# Altium footprint library con-phoenix-508.PCBLIB: 90 footprints (part 1 of 6)
Each footprint in its own frame and in the unit in brackets; x right, y up, seen from the top. Pads: shape width x height; smd on the part's side, far side on the other; paste and mask are expansions set on the pad; w line width, h text height; cw(c..) or ccw(c..) is an arc to the next point about the centre after c.
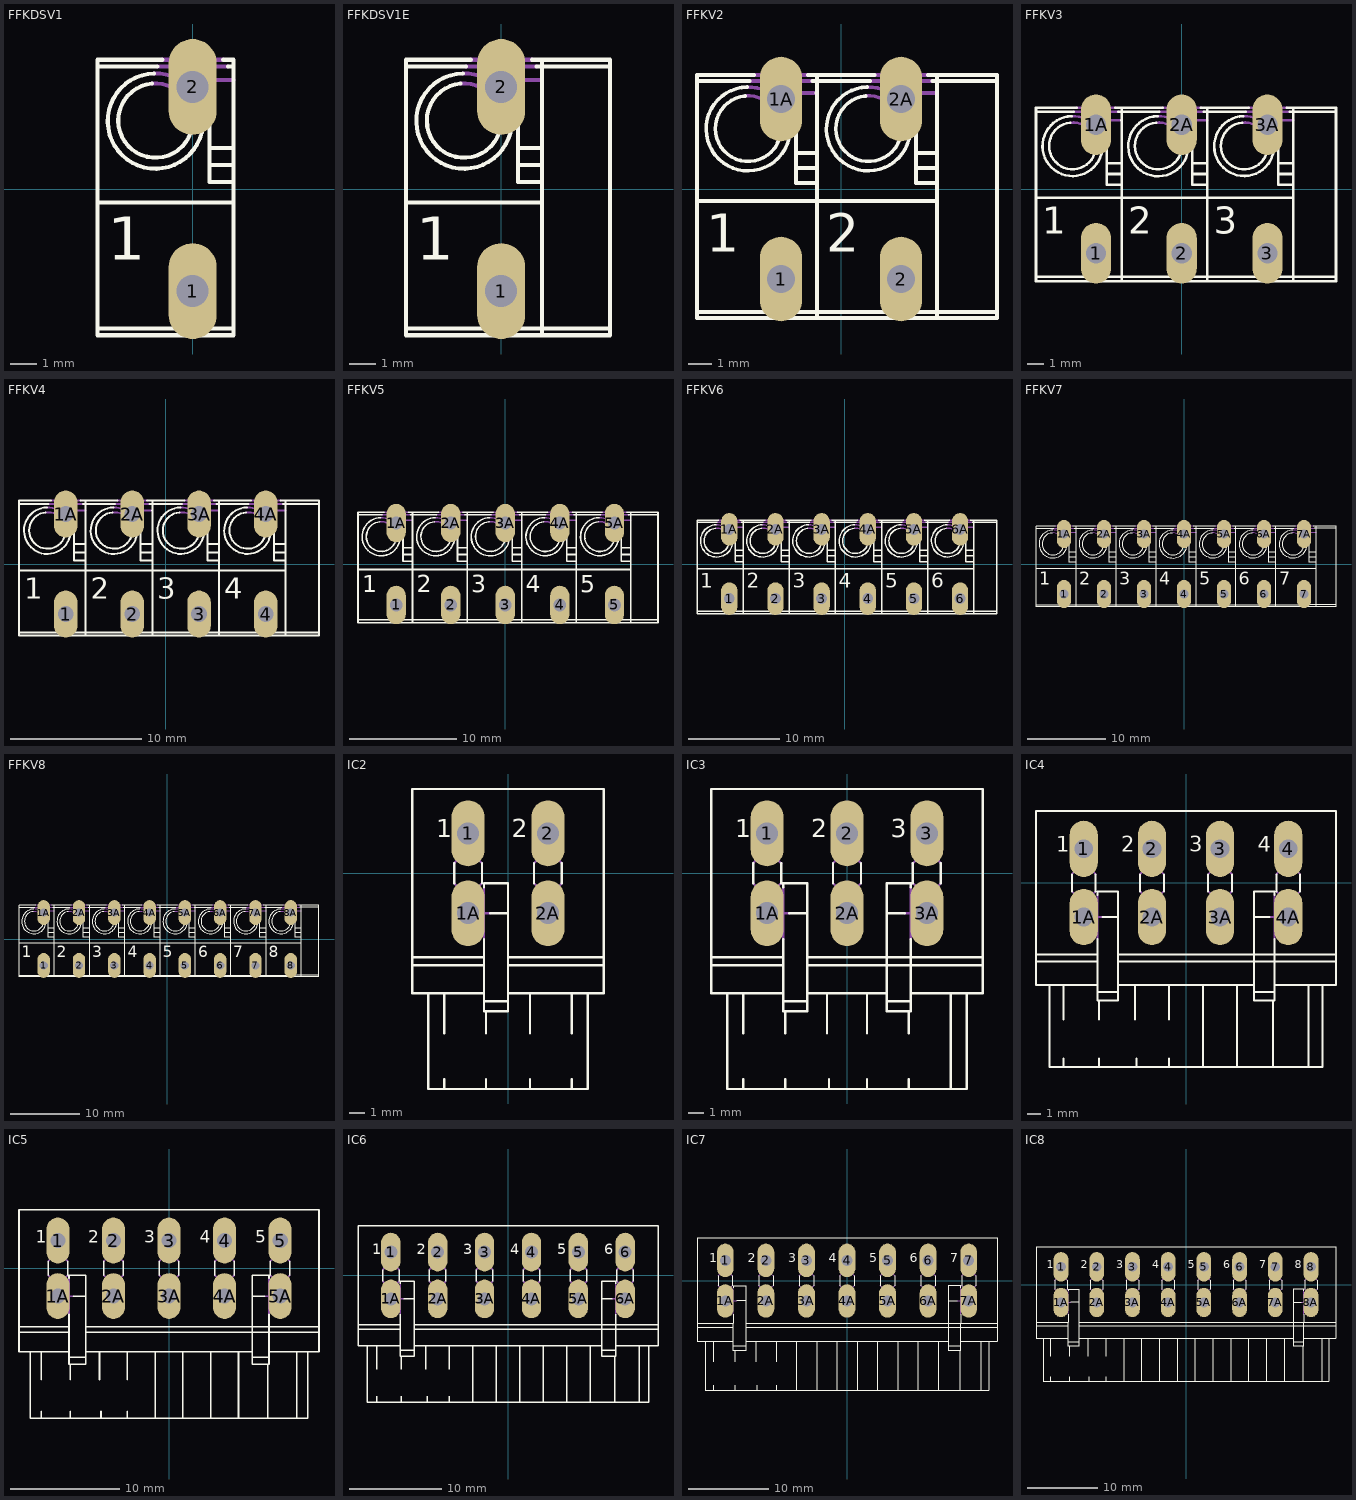
[diagram p0: the footprints below, top view; thin cyan lines are the x and y axes]

## FFKDSV1 [mil]
pads (2):
  oval 70.5x141 hole 47: 1(0,-150) 2(0,150)
Top Overlay:
  lines w6: -59.81,155 ccw(c-54.7,100.59) -0.9,91 ; -56.57,170 ccw(c-54.68,99.9) 15,92 ; -51.97,180 -140,180 ; -44.72,190 -140,190 -140,180 ; -23.98,-205 -140,-205 ; 24,-205 60,-205 ; 25,96 25,60 ; 45,190 60,190 60,180 ; 52,180 60,180 ; -140,-205 -140,-215 60,-215 60,-205 ; -140,-205 -140,-20 ; -140,-20 -140,180 ; -140,-20 60,-20 ; 25,35 25,10 60,10 ; 25,35 25,60 ; 25,35 60,35 ; 25,60 60,60 ; 60,-205 60,-20 ; 60,-20 60,10 ; 60,10 60,35 ; 60,35 60,60 ; 60,60 60,160 ; 60,160 60,180 ; 60,160 60,160
  text "1" at -125,-125 h108.5
Courtyard Bottom:
  lines w6: -59.81,155 cw(c-54.7,100.6) -0.91,91 ; -56.57,170 cw(c-54.68,99.9) 15,92 ; -51.97,180 52,180 ; -44.72,190 45,190 ; -23.98,-205 24,-205 ; 25,96 25,160 60,160

## FFKDSV1E [mil]
pads (2):
  oval 70.5x141 hole 47: 1(0,-150) 2(0,150)
Top Overlay:
  lines w6: -59.81,155 ccw(c-54.7,100.59) -0.9,91 ; -56.57,170 ccw(c-54.68,99.9) 15,92 ; -51.97,180 -140,180 ; -44.72,190 -140,190 -140,180 ; -23.98,-205 -140,-205 ; 24,-205 160,-205 ; 25,96 25,60 ; 45,190 160,190 160,180 ; 52,180 160,180 ; 60,-215 60,-20 ; 60,190 60,160 ; -140,-205 -140,-215 160,-215 160,-205 ; -140,-205 -140,-20 ; -140,-20 -140,180 ; -140,-20 60,-20 ; 25,35 25,10 60,10 ; 25,35 25,60 ; 25,35 60,35 ; 25,60 60,60 ; 60,-20 60,10 ; 60,10 60,35 ; 60,35 60,60 ; 60,60 60,160 ; 60,160 60,160 ; 160,-205 160,180
  text "1" at -125,-125 h108.5
Courtyard Bottom:
  lines w6: -59.81,155 cw(c-54.7,100.6) -0.91,91 ; -56.57,170 cw(c-54.68,99.9) 15,92 ; -51.97,180 52,180 ; -44.72,190 45,190 ; -23.98,-205 24,-205 ; 25,96 25,160 60,160

## FFKV2 [mil]
pads (4):
  oval 70.5x141 hole 47: 1(-100,-150) 1A(-100,150) 2(100,-150) 2A(100,150)
Top Overlay:
  lines w6: -159.81,155 ccw(c-154.7,100.59) -100.9,91 ; -156.57,170 ccw(c-154.91,100.1) -85.46,92 ; -151.97,180 -240,180 ; -144.72,190 -240,190 -240,180 ; -123.98,-205 -240,-205 ; -76.02,-205 -40,-205 ; -75,96 -75,60 ; -55.28,190 -40,190 ; -48.03,180 -40,180 ; -40.83,160 -40,160 ; 41,155 ccw(c46.15,100.55) 100,91 ; 44,170 ccw(c45.6,100.15) 115,92 ; 49,180 -40,180 ; 56,190 -40,190 ; 77,-205 -40,-205 ; 124,-205 260,-205 ; 125,96 125,60 ; 145,190 260,190 260,180 ; 152,180 260,180 ; 160,-215 160,-20 ; 160,190 160,160 ; -240,-205 -240,-215 -40,-215 ; -240,-205 -240,-20 ; -240,-20 -240,180 ; -240,-20 -40,-20 ; -75,35 -75,10 -40,10 ; -75,35 -75,60 ; -75,35 -40,35 ; -75,60 -40,60 ; -40,-215 -40,-205 ; -40,-215 260,-215 260,-205 ; -40,-205 -40,-20 ; -40,-20 -40,10 ; -40,-20 160,-20 ; -40,10 -40,35 ; -40,35 -40,60 ; -40,60 -40,160 ; -40,160 -40,180 ; -40,180 -40,190 ; 125,35 125,10 160,10 ; 125,35 125,60 ; 125,35 160,35 ; 125,60 160,60 ; 160,-20 160,10 ; 160,10 160,35 ; 160,35 160,60 ; 160,60 160,160 ; 160,160 160,160 ; 260,-205 260,180
  text "1" at -225,-125 h108.5
  text "2" at -25,-125 h108.5
Courtyard Bottom:
  lines w6: -159.81,155 cw(c-154.7,100.6) -100.91,91 ; -156.57,170 cw(c-154.91,100.11) -85.47,92 ; -151.97,180 -48.03,180 ; -144.72,190 -55.28,190 ; -123.98,-205 -76.02,-205 ; -75,96 -75,160 -40.83,160 ; 41,155 cw(c46.16,100.56) 100,91 ; 44,170 cw(c45.61,100.15) 115,92 ; 49,180 152,180 ; 56,190 145,190 ; 77,-205 124,-205 ; 125,96 125,160 160,160

## FFKV3 [mil]
pads (6):
  oval 70.5x141 hole 47: 1(-200,-150) 1A(-200,150) 2(0,-150) 2A(0,150) 3(200,-150) 3A(200,150)
Top Overlay:
  lines w6: -259.81,155 ccw(c-254.7,100.59) -200.9,91 ; -256.57,170 ccw(c-254.91,100.1) -185.46,92 ; -251.97,180 -340,180 ; -244.72,190 -340,190 -340,180 ; -223.98,-205 -340,-205 ; -176.02,-205 -140,-205 ; -175,96 -175,60 ; -155.28,190 -140,190 ; -148.03,180 -140,180 ; -140.83,160 -140,160 ; -59.81,155 ccw(c-54.7,100.59) -0.9,91 ; -56.57,170 ccw(c-54.68,99.9) 15,92 ; -51.97,180 -140,180 ; -44.72,190 -140,190 ; -23.98,-205 -140,-205 ; 24,-205 60,-205 ; 25,96 25,60 ; 45,190 60,190 ; 52,180 60,180 ; 141,155 ccw(c146.15,100.55) 200,91 ; 144,170 ccw(c145.6,100.15) 215,92 ; 149,180 60,180 ; 156,190 60,190 ; 177,-205 60,-205 ; 224,-205 360,-205 ; 225,96 225,60 ; 245,190 360,190 360,180 ; 252,180 360,180 ; 260,-215 260,-20 ; 260,190 260,160 ; -340,-205 -340,-215 -140,-215 ; -340,-205 -340,-20 ; -340,-20 -340,180 ; -340,-20 -140,-20 ; -175,35 -175,10 -140,10 ; -175,35 -175,60 ; -175,35 -140,35 ; -175,60 -140,60 ; -140,-215 60,-215 ; -140,-215 -140,-205 ; -140,-205 -140,-20 ; -140,-20 60,-20 ; -140,-20 -140,10 ; -140,10 -140,35 ; -140,35 -140,60 ; -140,60 -140,160 ; -140,160 -140,180 ; -140,180 -140,190 ; 25,35 25,10 60,10 ; 25,35 25,60 ; 25,35 60,35 ; 25,60 60,60 ; 60,-215 360,-215 360,-205 ; 60,-215 60,-205 ; 60,-205 60,-20 ; 60,-20 60,10 ; 60,-20 260,-20 ; 60,10 60,35 ; 60,35 60,60 ; 60,60 60,160 ; 60,160 60,180 ; 60,160 60,160 ; 60,180 60,190 ; 225,35 225,10 260,10 ; 225,35 225,60 ; 225,35 260,35 ; 225,60 260,60 ; 260,-20 260,10 ; 260,10 260,35 ; 260,35 260,60 ; 260,60 260,160 ; 260,160 260,160 ; 360,-205 360,180
  text "1" at -325,-125 h108.5
  text "2" at -125,-125 h108.5
  text "3" at 75,-125 h108.5
Courtyard Bottom:
  lines w6: -259.81,155 cw(c-254.7,100.6) -200.91,91 ; -256.57,170 cw(c-254.91,100.11) -185.47,92 ; -251.97,180 -148.03,180 ; -244.72,190 -155.28,190 ; -223.98,-205 -176.02,-205 ; -175,96 -175,160 -140.83,160 ; -59.81,155 cw(c-54.7,100.6) -0.91,91 ; -56.57,170 cw(c-54.68,99.9) 15,92 ; -51.97,180 52,180 ; -44.72,190 45,190 ; -23.98,-205 24,-205 ; 25,96 25,160 60,160 ; 141,155 cw(c146.16,100.56) 200,91 ; 144,170 cw(c145.61,100.15) 215,92 ; 149,180 252,180 ; 156,190 245,190 ; 177,-205 224,-205 ; 225,96 225,160 260,160

## FFKV4 [mil]
pads (8):
  oval 70.5x141 hole 47: 1(-300,-150) 1A(-300,150) 2(-100,-150) 2A(-100,150) 3(100,-150) 3A(100,150) 4(300,-150) 4A(300,150)
Top Overlay:
  lines w6: -359.81,155 ccw(c-354.7,100.59) -300.9,91 ; -356.57,170 ccw(c-354.91,100.1) -285.46,92 ; -351.97,180 -440,180 ; -344.72,190 -440,190 -440,180 ; -323.98,-205 -440,-205 ; -276.02,-205 -240,-205 ; -275,96 -275,60 ; -255.28,190 -240,190 ; -248.03,180 -240,180 ; -240.83,160 -240,160 ; -159.81,155 ccw(c-154.7,100.59) -100.9,91 ; -156.57,170 ccw(c-154.91,100.1) -85.46,92 ; -151.97,180 -240,180 ; -144.72,190 -240,190 ; -123.98,-205 -240,-205 ; -76.02,-205 -40,-205 ; -75,96 -75,60 ; -55.28,190 -40,190 ; -48.03,180 -40,180 ; -40.83,160 -40,160 ; 41,155 ccw(c46.15,100.55) 100,91 ; 44,170 ccw(c45.6,100.15) 115,92 ; 49,180 -40,180 ; 56,190 -40,190 ; 77,-205 -40,-205 ; 124,-205 160,-205 ; 125,96 125,60 ; 145,190 160,190 ; 152,180 160,180 ; 160,10 125,10 125,35 ; 160,35 125,35 ; 160,60 125,60 ; 241,155 ccw(c246.15,100.55) 300,91 ; 244,170 ccw(c245.6,100.15) 315,92 ; 249,180 160,180 ; 256,190 160,190 ; 277,-205 160,-205 ; 324,-205 460,-205 ; 325,96 325,60 ; 345,190 460,190 460,180 ; 352,180 460,180 ; 360,-215 360,-20 ; 360,190 360,160 ; -440,-205 -440,-215 -240,-215 ; -440,-205 -440,-20 ; -440,-20 -440,180 ; -440,-20 -240,-20 ; -275,35 -275,10 -240,10 ; -275,35 -275,60 ; -275,35 -240,35 ; -275,60 -240,60 ; -240,-215 -40,-215 ; -240,-215 -240,-205 ; -240,-205 -240,-20 ; -240,-20 -40,-20 ; -240,-20 -240,10 ; -240,10 -240,35 ; -240,35 -240,60 ; -240,60 -240,160 ; -240,160 -240,180 ; -240,180 -240,190 ; -75,35 -75,10 -40,10 ; -75,35 -75,60 ; -75,35 -40,35 ; -75,60 -40,60 ; -40,-215 160,-215 ; -40,-215 -40,-205 ; -40,-205 -40,-20 ; -40,-20 160,-20 ; -40,-20 -40,10 ; -40,10 -40,35 ; -40,35 -40,60 ; -40,60 -40,160 ; -40,160 -40,180 ; -40,180 -40,190 ; 125,35 125,60 ; 160,-215 160,-205 ; 160,-215 460,-215 460,-205 ; 160,-205 160,-20 ; 160,-20 160,160 ; 160,-20 360,-20 ; 160,160 160,160 ; 160,160 160,180 ; 160,180 160,190 ; 325,35 325,10 360,10 ; 325,35 325,60 ; 325,35 360,35 ; 325,60 360,60 ; 360,-20 360,10 ; 360,10 360,35 ; 360,35 360,60 ; 360,60 360,160 ; 360,160 360,160 ; 460,-205 460,180
  text "1" at -425,-125 h108.5
  text "2" at -225,-125 h108.5
  text "3" at -25,-125 h108.5
  text "4" at 175,-125 h108.5
Courtyard Bottom:
  lines w6: -359.81,155 cw(c-354.7,100.6) -300.91,91 ; -356.57,170 cw(c-354.91,100.11) -285.47,92 ; -351.97,180 -248.03,180 ; -344.72,190 -255.28,190 ; -323.98,-205 -276.02,-205 ; -275,96 -275,160 -240.83,160 ; -159.81,155 cw(c-154.7,100.6) -100.91,91 ; -156.57,170 cw(c-154.91,100.11) -85.47,92 ; -151.97,180 -48.03,180 ; -144.72,190 -55.28,190 ; -123.98,-205 -76.02,-205 ; -75,96 -75,160 -40.83,160 ; 41,155 cw(c46.16,100.56) 100,91 ; 44,170 cw(c45.61,100.15) 115,92 ; 49,180 152,180 ; 56,190 145,190 ; 77,-205 124,-205 ; 125,96 125,160 160,160 ; 241,155 cw(c246.16,100.56) 300,91 ; 244,170 cw(c245.61,100.15) 315,92 ; 249,180 352,180 ; 256,190 345,190 ; 277,-205 324,-205 ; 325,96 325,160 360,160

## FFKV5 [mil]
pads (10):
  oval 70.5x141 hole 47: 1(-400,-150) 1A(-400,150) 2(-200,-150) 2A(-200,150) 3(0,-150) 3A(0,150) 4(200,-150) 4A(200,150) 5(400,-150) 5A(400,150)
Top Overlay:
  lines w6: -459.81,155 ccw(c-454.7,100.59) -400.9,91 ; -456.57,170 ccw(c-454.91,100.1) -385.46,92 ; -451.97,180 -540,180 ; -444.72,190 -540,190 -540,180 ; -423.98,-205 -540,-205 ; -376.02,-205 -340,-205 ; -375,96 -375,60 ; -355.28,190 -340,190 ; -348.03,180 -340,180 ; -340.83,160 -340,160 ; -259.81,155 ccw(c-254.7,100.59) -200.9,91 ; -256.57,170 ccw(c-254.91,100.1) -185.46,92 ; -251.97,180 -340,180 ; -244.72,190 -340,190 ; -223.98,-205 -340,-205 ; -176.02,-205 -140,-205 ; -175,96 -175,60 ; -155.28,190 -140,190 ; -148.03,180 -140,180 ; -140.83,160 -140,160 ; -59.81,155 ccw(c-54.7,100.59) -0.9,91 ; -56.57,170 ccw(c-54.68,99.9) 15,92 ; -51.97,180 -140,180 ; -44.72,190 -140,190 ; -23.98,-205 -140,-205 ; 24,-205 60,-205 ; 25,96 25,60 ; 45,190 60,190 ; 52,180 60,180 ; 141,155 ccw(c146.15,100.55) 200,91 ; 144,170 ccw(c145.6,100.15) 215,92 ; 149,180 60,180 ; 156,190 60,190 ; 177,-205 60,-205 ; 224,-205 260,-205 ; 225,96 225,60 ; 245,190 260,190 ; 252,180 260,180 ; 260,10 225,10 225,35 ; 260,35 225,35 ; 260,60 225,60 ; 341,155 ccw(c346.15,100.55) 400,91 ; 344,170 ccw(c345.61,100.15) 415,92 ; 349,180 260,180 ; 356,190 260,190 ; 377,-205 260,-205 ; 424,-205 560,-205 ; 425,96 425,60 ; 445,190 560,190 560,180 ; 452,180 560,180 ; 460,-215 460,-20 ; 460,190 460,160 ; -540,-205 -540,-215 -340,-215 ; -540,-205 -540,-20 ; -540,-20 -540,180 ; -540,-20 -340,-20 ; -375,35 -375,10 -340,10 ; -375,35 -375,60 ; -375,35 -340,35 ; -375,60 -340,60 ; -340,-215 -140,-215 ; -340,-215 -340,-205 ; -340,-205 -340,-20 ; -340,-20 -140,-20 ; -340,-20 -340,10 ; -340,10 -340,35 ; -340,35 -340,60 ; -340,60 -340,160 ; -340,160 -340,180 ; -340,180 -340,190 ; -175,35 -175,10 -140,10 ; -175,35 -175,60 ; -175,35 -140,35 ; -175,60 -140,60 ; -140,-215 60,-215 ; -140,-215 -140,-205 ; -140,-205 -140,-20 ; -140,-20 60,-20 ; -140,-20 -140,10 ; -140,10 -140,35 ; -140,35 -140,60 ; -140,60 -140,160 ; -140,160 -140,180 ; -140,180 -140,190 ; 25,35 25,10 60,10 ; 25,35 25,60 ; 25,35 60,35 ; 25,60 60,60 ; 60,-215 260,-215 ; 60,-215 60,-205 ; 60,-205 60,-20 ; 60,-20 260,-20 ; 60,-20 60,10 ; 60,10 60,35 ; 60,35 60,60 ; 60,60 60,160 ; 60,160 60,180 ; 60,160 60,160 ; 60,180 60,190 ; 225,35 225,60 ; 260,-215 260,-205 ; 260,-215 560,-215 560,-205 ; 260,-205 260,-20 ; 260,-20 260,160 ; 260,-20 460,-20 ; 260,160 260,160 ; 260,160 260,180 ; 260,180 260,190 ; 425,35 425,10 460,10 ; 425,35 425,60 ; 425,35 460,35 ; 425,60 460,60 ; 460,-20 460,10 ; 460,10 460,35 ; 460,35 460,60 ; 460,60 460,160 ; 460,160 460,160 ; 560,-205 560,180
  text "1" at -525,-125 h108.5
  text "2" at -325,-125 h108.5
  text "3" at -125,-125 h108.5
  text "4" at 75,-125 h108.5
  text "5" at 275,-125 h108.5
Courtyard Bottom:
  lines w6: -459.81,155 cw(c-454.7,100.6) -400.91,91 ; -456.57,170 cw(c-454.91,100.11) -385.47,92 ; -451.97,180 -348.03,180 ; -444.72,190 -355.28,190 ; -423.98,-205 -376.02,-205 ; -375,96 -375,160 -340.83,160 ; -259.81,155 cw(c-254.7,100.6) -200.91,91 ; -256.57,170 cw(c-254.91,100.11) -185.47,92 ; -251.97,180 -148.03,180 ; -244.72,190 -155.28,190 ; -223.98,-205 -176.02,-205 ; -175,96 -175,160 -140.83,160 ; -59.81,155 cw(c-54.7,100.6) -0.91,91 ; -56.57,170 cw(c-54.68,99.9) 15,92 ; -51.97,180 52,180 ; -44.72,190 45,190 ; -23.98,-205 24,-205 ; 25,96 25,160 60,160 ; 141,155 cw(c146.16,100.56) 200,91 ; 144,170 cw(c145.61,100.15) 215,92 ; 149,180 252,180 ; 156,190 245,190 ; 177,-205 224,-205 ; 225,96 225,160 260,160 ; 341,155 cw(c346.16,100.56) 400,91 ; 344,170 cw(c345.61,100.15) 415,92 ; 349,180 452,180 ; 356,190 445,190 ; 377,-205 424,-205 ; 425,96 425,160 460,160

## FFKV6 [mil]
pads (12):
  oval 70.5x141 hole 47: 1(-500,-150) 1A(-500,150) 2(-300,-150) 2A(-300,150) 3(-100,-150) 3A(-100,150) 4(100,-150) 4A(100,150) 5(300,-150) 5A(300,150) 6(500,-150) 6A(500,150)
Top Overlay:
  lines w6: -559.81,155 ccw(c-554.7,100.59) -500.9,91 ; -556.57,170 ccw(c-554.91,100.1) -485.46,92 ; -551.97,180 -640,180 ; -544.72,190 -640,190 -640,180 ; -523.98,-205 -640,-205 ; -476.02,-205 -440,-205 ; -475,96 -475,60 ; -455.28,190 -440,190 ; -448.03,180 -440,180 ; -359.81,155 ccw(c-354.7,100.59) -300.9,91 ; -356.57,170 ccw(c-354.91,100.1) -285.46,92 ; -351.97,180 -440,180 ; -344.72,190 -440,190 ; -323.98,-205 -440,-205 ; -276.02,-205 -240,-205 ; -275,96 -275,60 ; -255.28,190 -240,190 ; -248.03,180 -240,180 ; -240.83,160 -240,160 ; -159.81,155 ccw(c-154.7,100.59) -100.9,91 ; -156.57,170 ccw(c-154.91,100.1) -85.46,92 ; -151.97,180 -240,180 ; -144.72,190 -240,190 ; -123.98,-205 -240,-205 ; -76.02,-205 -40,-205 ; -75,96 -75,60 ; -55.28,190 -40,190 ; -48.03,180 -40,180 ; -40.83,160 -40,160 ; 41,155 ccw(c46.15,100.55) 100,91 ; 44,170 ccw(c45.6,100.15) 115,92 ; 49,180 -40,180 ; 56,190 -40,190 ; 77,-205 -40,-205 ; 124,-205 160,-205 ; 125,96 125,60 ; 145,190 160,190 ; 152,180 160,180 ; 241,155 ccw(c246.15,100.55) 300,91 ; 244,170 ccw(c245.6,100.15) 315,92 ; 249,180 160,180 ; 256,190 160,190 ; 277,-205 160,-205 ; 324,-205 360,-205 ; 325,96 325,60 ; 345,190 360,190 ; 352,180 360,180 ; 360,10 325,10 325,35 ; 360,35 325,35 ; 360,60 325,60 ; 441,155 ccw(c446.15,100.55) 500,91 ; 444,170 ccw(c445.61,100.15) 515,92 ; 449,180 360,180 ; 456,190 360,190 ; 477,-205 360,-205 ; 524,-205 660,-205 ; 525,96 525,60 ; 545,190 660,190 660,180 ; 552,180 660,180 ; 560,-215 560,-20 ; 560,190 560,160 ; -640,-205 -640,-215 -440,-215 ; -640,-205 -640,-20 ; -640,-20 -640,180 ; -640,-20 -440,-20 ; -475,35 -475,10 -440,10 ; -475,35 -475,60 ; -475,35 -440,35 ; -475,60 -440,60 ; -440,-215 -440,-205 ; -440,-215 -240,-215 ; -440,-205 -440,-20 ; -440,-20 -440,10 ; -440,-20 -240,-20 ; -440,10 -440,35 ; -440,35 -440,60 ; -440,60 -440,180 ; -440,180 -440,190 ; -275,35 -275,10 -240,10 ; -275,35 -275,60 ; -275,35 -240,35 ; -275,60 -240,60 ; -240,-215 -40,-215 ; -240,-215 -240,-205 ; -240,-205 -240,-20 ; -240,-20 -40,-20 ; -240,-20 -240,10 ; -240,10 -240,35 ; -240,35 -240,60 ; -240,60 -240,160 ; -240,160 -240,180 ; -240,180 -240,190 ; -75,35 -75,10 -40,10 ; -75,35 -75,60 ; -75,35 -40,35 ; -75,60 -40,60 ; -40,-215 160,-215 ; -40,-215 -40,-205 ; -40,-205 -40,-20 ; -40,-20 160,-20 ; -40,-20 -40,10 ; -40,10 -40,35 ; -40,35 -40,60 ; -40,60 -40,160 ; -40,160 -40,180 ; -40,180 -40,190 ; 125,35 125,10 160,10 ; 125,35 125,60 ; 125,35 160,35 ; 125,60 160,60 ; 160,-215 360,-215 ; 160,-215 160,-205 ; 160,-205 160,-20 ; 160,-20 360,-20 ; 160,-20 160,10 ; 160,10 160,35 ; 160,35 160,60 ; 160,60 160,160 ; 160,160 160,180 ; 160,160 160,160 ; 160,180 160,190 ; 325,35 325,60 ; 360,-215 360,-205 ; 360,-215 660,-215 660,-205 ; 360,-205 360,-20 ; 360,-20 360,160 ; 360,-20 560,-20 ; 360,160 360,160 ; 360,160 360,180 ; 360,180 360,190 ; 525,35 525,10 560,10 ; 525,35 525,60 ; 525,35 560,35 ; 525,60 560,60 ; 560,-20 560,10 ; 560,10 560,35 ; 560,35 560,60 ; 560,60 560,160 ; 560,160 560,160 ; 660,-205 660,180
  text "1" at -625,-125 h108.5
  text "2" at -425,-125 h108.5
  text "3" at -225,-125 h108.5
  text "4" at -25,-125 h108.5
  text "5" at 175,-125 h108.5
  text "6" at 375,-125 h108.5
Courtyard Bottom:
  lines w6: -559.81,155 cw(c-554.7,100.6) -500.91,91 ; -556.57,170 cw(c-554.91,100.11) -485.47,92 ; -551.97,180 -448.03,180 ; -544.72,190 -455.28,190 ; -523.98,-205 -476.02,-205 ; -475,96 -475,160 -440.83,160 ; -359.81,155 cw(c-354.7,100.6) -300.91,91 ; -356.57,170 cw(c-354.91,100.11) -285.47,92 ; -351.97,180 -248.03,180 ; -344.72,190 -255.28,190 ; -323.98,-205 -276.02,-205 ; -275,96 -275,160 -240.83,160 ; -159.81,155 cw(c-154.7,100.6) -100.91,91 ; -156.57,170 cw(c-154.91,100.11) -85.47,92 ; -151.97,180 -48.03,180 ; -144.72,190 -55.28,190 ; -123.98,-205 -76.02,-205 ; -75,96 -75,160 -40.83,160 ; 41,155 cw(c46.16,100.56) 100,91 ; 44,170 cw(c45.61,100.15) 115,92 ; 49,180 152,180 ; 56,190 145,190 ; 77,-205 124,-205 ; 125,96 125,160 160,160 ; 241,155 cw(c246.16,100.56) 300,91 ; 244,170 cw(c245.61,100.15) 315,92 ; 249,180 352,180 ; 256,190 345,190 ; 277,-205 324,-205 ; 325,96 325,160 360,160 ; 441,155 cw(c446.16,100.56) 500,91 ; 444,170 cw(c445.61,100.15) 515,92 ; 449,180 552,180 ; 456,190 545,190 ; 477,-205 524,-205 ; 525,96 525,160 560,160

## FFKV7 [mil]
pads (14):
  oval 70.5x141 hole 47: 1(-600,-150) 1A(-600,150) 2(-400,-150) 2A(-400,150) 3(-200,-150) 3A(-200,150) 4(0,-150) 4A(0,150) 5(200,-150) 5A(200,150) 6(400,-150) 6A(400,150) 7(600,-150) 7A(600,150)
Top Overlay:
  drawing of 170 lines, arcs and shapes, not listed
  text "1" at -725,-125 h108.5
  text "2" at -525,-125 h108.5
  text "3" at -325,-125 h108.5
  text "4" at -125,-125 h108.5
  text "5" at 75,-125 h108.5
  text "6" at 275,-125 h108.5
  text "7" at 475,-125 h108.5
Courtyard Bottom:
  lines w6: -659.81,155 cw(c-654.7,100.6) -600.91,91 ; -656.57,170 cw(c-654.91,100.11) -585.47,92 ; -651.97,180 -548.03,180 ; -644.72,190 -555.28,190 ; -623.98,-205 -576.02,-205 ; -575,96 -575,160 -540.83,160 ; -459.81,155 cw(c-454.7,100.6) -400.91,91 ; -456.57,170 cw(c-454.91,100.11) -385.47,92 ; -451.97,180 -348.03,180 ; -444.72,190 -355.28,190 ; -423.98,-205 -376.02,-205 ; -375,96 -375,160 -340.83,160 ; -259.81,155 cw(c-254.7,100.6) -200.91,91 ; -256.57,170 cw(c-254.91,100.11) -185.47,92 ; -251.97,180 -148.03,180 ; -244.72,190 -155.28,190 ; -223.98,-205 -176.02,-205 ; -175,96 -175,160 -140.83,160 ; -59.81,155 cw(c-54.7,100.6) -0.91,91 ; -56.57,170 cw(c-54.68,99.9) 15,92 ; -51.97,180 52,180 ; -44.72,190 45,190 ; -23.98,-205 24,-205 ; 25,96 25,160 60,160 ; 141,155 cw(c146.16,100.56) 200,91 ; 144,170 cw(c145.61,100.15) 215,92 ; 149,180 252,180 ; 156,190 245,190 ; 177,-205 224,-205 ; 225,96 225,160 260,160 ; 341,155 cw(c346.16,100.56) 400,91 ; 344,170 cw(c345.61,100.15) 415,92 ; 349,180 452,180 ; 356,190 445,190 ; 377,-205 424,-205 ; 425,96 425,160 460,160 ; 541,155 cw(c546.16,100.56) 600,91 ; 544,170 cw(c545.61,100.15) 615,92 ; 549,180 652,180 ; 556,190 645,190 ; 577,-205 624,-205 ; 625,96 625,160 660,160

## FFKV8 [mil]
pads (16):
  oval 70.5x141 hole 47: 1(-700,-150) 1A(-700,150) 2(-500,-150) 2A(-500,150) 3(-300,-150) 3A(-300,150) 4(-100,-150) 4A(-100,150) 5(100,-150) 5A(100,150) 6(300,-150) 6A(300,150) 7(500,-150) 7A(500,150) 8(700,-150) 8A(700,150)
Top Overlay:
  drawing of 190 lines, arcs and shapes, not listed
  text "1" at -825,-125 h108.5
  text "2" at -625,-125 h108.5
  text "3" at -425,-125 h108.5
  text "4" at -225,-125 h108.5
  text "5" at -25,-125 h108.5
  text "6" at 175,-125 h108.5
  text "7" at 375,-125 h108.5
  text "8" at 575,-125 h108.5
Courtyard Bottom:
  lines w6: -759.81,155 cw(c-754.7,100.6) -700.91,91 ; -756.57,170 cw(c-754.91,100.11) -685.47,92 ; -751.97,180 -648.03,180 ; -744.72,190 -655.28,190 ; -723.98,-205 -676.02,-205 ; -675,96 -675,160 -640.83,160 ; -559.81,155 cw(c-554.7,100.6) -500.91,91 ; -556.57,170 cw(c-554.91,100.11) -485.47,92 ; -551.97,180 -448.03,180 ; -544.72,190 -455.28,190 ; -523.98,-205 -476.02,-205 ; -475,96 -475,160 -440.83,160 ; -359.81,155 cw(c-354.7,100.6) -300.91,91 ; -356.57,170 cw(c-354.91,100.11) -285.47,92 ; -351.97,180 -248.03,180 ; -344.72,190 -255.28,190 ; -323.98,-205 -276.02,-205 ; -275,96 -275,160 -240.83,160 ; -159.81,155 cw(c-154.7,100.6) -100.91,91 ; -156.57,170 cw(c-154.91,100.11) -85.47,92 ; -151.97,180 -48.03,180 ; -144.72,190 -55.28,190 ; -123.98,-205 -76.02,-205 ; -75,96 -75,160 -40.83,160 ; 41,155 cw(c46.16,100.56) 100,91 ; 44,170 cw(c45.61,100.15) 115,92 ; 49,180 152,180 ; 56,190 145,190 ; 77,-205 124,-205 ; 125,96 125,160 160,160 ; 241,155 cw(c246.16,100.56) 300,91 ; 244,170 cw(c245.61,100.15) 315,92 ; 249,180 352,180 ; 256,190 345,190 ; 277,-205 324,-205 ; 325,96 325,160 360,160 ; 441,155 cw(c446.16,100.56) 500,91 ; 444,170 cw(c445.61,100.15) 515,92 ; 449,180 552,180 ; 456,190 545,190 ; 477,-205 524,-205 ; 525,96 525,160 560,160 ; 641,155 cw(c646.16,100.56) 700,91 ; 644,170 cw(c645.61,100.15) 715,92 ; 649,180 752,180 ; 656,190 745,190 ; 677,-205 724,-205 ; 725,96 725,160 760,160

## IC2 [mil]
pads (4):
  oval 82.5x165 hole 55: 1(-100,100) 1A(-100,-100) 2(100,100) 2A(100,-100)
Top Overlay:
  lines w6: -160,-515 -160,-540 ; -160,-400 -160,-300 ; -135,-25 -135,25 ; -65,-25 -65,25 ; -60,-165 -60,-210 ; -60,-35 -60,-25 0,-25 0,-100 ; -55,-515 -55,-540 ; -55,-400 -55,-345 ; -45,-100 0,-100 ; 55,-515 55,-540 ; 55,-400 55,-300 ; 65,-25 65,25 ; 135,-25 135,25 ; 160,-515 160,-540 ; 160,-400 160,-300 ; -240,-230 -240,-210 ; -240,-230 -60,-230 ; -240,-230 -240,-300 -200,-300 ; -240,-210 -240,211 240,211 240,-210 ; -240,-210 -60,-210 ; -200,-300 -160,-300 ; -200,-300 -200,-540 -160,-540 ; -160,-540 -55,-540 ; -160,-300 -60,-300 ; -60,-320 -60,-345 -55,-345 ; -60,-320 0,-320 ; -60,-320 -60,-300 ; -60,-300 -60,-230 ; -60,-230 -60,-210 ; -55,-540 55,-540 ; -55,-345 0,-345 0,-320 ; 0,-320 0,-300 ; 0,-300 0,-230 ; 0,-300 55,-300 ; 0,-230 0,-210 ; 0,-230 240,-230 ; 0,-210 0,-100 ; 0,-210 240,-210 ; 55,-540 160,-540 ; 55,-300 160,-300 ; 160,-540 200,-540 200,-300 ; 160,-300 200,-300 ; 200,-300 240,-300 240,-230 ; 240,-230 240,-210
  text "1" at -180,75 h77.5
  text "2" at 10,75 h77.5
Courtyard Bottom:
  lines w6: -135,-25 -125,-35 -75,-35 -65,-25 ; -135,25 -125,35 -75,35 -65,25 ; -60,-165 -60,-100 ; -60,-35 -60,-100 ; -45,-100 -60,-100 ; 65,-25 75,-35 125,-35 135,-25 ; 65,25 75,35 125,35 135,25

## IC3 [mil]
pads (6):
  oval 82.5x165 hole 55: 1(-200,100) 1A(-200,-100) 2(0,100) 2A(0,-100) 3(200,100) 3A(200,-100)
Top Overlay:
  lines w6: -260,-515 -260,-540 ; -260,-400 -260,-300 ; -235,-25 -235,25 ; -165,-25 -165,25 ; -160,-165 -160,-210 ; -160,-35 -160,-25 -100,-25 -100,-100 ; -155,-515 -155,-540 ; -155,-400 -155,-345 ; -145,-100 -100,-100 ; -50,-400 -50,-300 ; -45,-515 -45,-540 ; -35,-25 -35,25 ; 35,-25 35,25 ; 50,-515 50,-540 ; 50,-400 50,-300 ; 145,-100 100,-100 ; 155,-515 155,-540 ; 155,-400 155,-345 ; 160,-165 160,-210 ; 160,-35 160,-25 100,-25 100,-100 ; 165,-25 165,25 ; 235,-25 235,25 ; -340,-230 -340,-210 ; -340,-230 -160,-230 ; -340,-230 -340,-300 -300,-300 ; -340,-210 -340,211 340,211 340,-210 ; -340,-210 -160,-210 ; -300,-300 -260,-300 ; -300,-300 -300,-540 -260,-540 ; -260,-540 -155,-540 ; -260,-300 -160,-300 ; -160,-320 -160,-345 -155,-345 ; -160,-320 -100,-320 ; -160,-320 -160,-300 ; -160,-300 -160,-230 ; -160,-230 -160,-210 ; -155,-540 -45,-540 ; -155,-345 -100,-345 -100,-320 ; -100,-320 -100,-300 ; -100,-300 -100,-230 ; -100,-300 -50,-300 ; -100,-230 -100,-210 ; -100,-230 100,-230 ; -100,-210 -100,-100 ; -100,-210 100,-210 ; -50,-300 50,-300 ; -45,-540 50,-540 ; 50,-540 155,-540 ; 50,-300 100,-300 ; 100,-320 100,-300 ; 100,-320 160,-320 ; 100,-320 100,-345 155,-345 ; 100,-300 100,-230 ; 100,-230 160,-230 ; 100,-230 100,-210 ; 100,-210 160,-210 ; 100,-210 100,-100 ; 155,-540 260,-540 ; 155,-345 160,-345 160,-320 ; 160,-320 160,-300 ; 160,-300 260,-300 ; 160,-300 160,-230 ; 160,-230 340,-230 ; 160,-230 160,-210 ; 160,-210 340,-210 ; 260,-540 300,-540 300,-300 ; 260,-540 260,-300 ; 260,-300 300,-300 ; 300,-300 340,-300 340,-230 ; 340,-230 340,-210
  text "3" at 110,75 h77.5
  text "1" at -280,75 h77.5
  text "2" at -90,75 h77.5
Courtyard Bottom:
  lines w6: -235,-25 -225,-35 -175,-35 -165,-25 ; -235,25 -225,35 -175,35 -165,25 ; -160,-165 -160,-100 ; -160,-35 -160,-100 ; -145,-100 -160,-100 ; -35,-25 -25,-35 25,-35 35,-25 ; -35,25 -25,35 25,35 35,25 ; 145,-100 160,-100 ; 160,-165 160,-100 ; 160,-35 160,-100 ; 165,-25 175,-35 225,-35 235,-25 ; 165,25 175,35 225,35 235,25

## IC4 [mil]
pads (8):
  oval 82.5x165 hole 55: 1(-300,100) 1A(-300,-100) 2(-100,100) 2A(-100,-100) 3(100,100) 3A(100,-100) 4(300,100) 4A(300,-100)
Top Overlay:
  lines w6: -360,-515 -360,-540 ; -360,-400 -360,-300 ; -335,-25 -335,25 ; -265,-25 -265,25 ; -260,-165 -260,-210 ; -260,-35 -260,-25 -200,-25 -200,-100 ; -255,-515 -255,-540 ; -255,-400 -255,-345 ; -245,-100 -200,-100 ; -150,-400 -150,-300 ; -145,-515 -145,-540 ; -135,-25 -135,25 ; -65,-25 -65,25 ; -50,-515 -50,-540 ; -50,-400 -50,-300 ; 65,-25 65,25 ; 135,-25 135,25 ; 245,-100 200,-100 ; 260,-165 260,-210 ; 260,-35 260,-25 200,-25 200,-100 ; 265,-25 265,25 ; 335,-25 335,25 ; -440,-230 -440,-210 ; -440,-230 -260,-230 ; -440,-230 -440,-300 -400,-300 ; -440,-210 -440,211 440,211 440,-210 ; -440,-210 -260,-210 ; -400,-300 -360,-300 ; -400,-300 -400,-540 -360,-540 ; -360,-540 -255,-540 ; -360,-300 -260,-300 ; -260,-320 -260,-345 -255,-345 ; -260,-320 -200,-320 ; -260,-320 -260,-300 ; -260,-300 -260,-230 ; -260,-230 -260,-210 ; -255,-540 -145,-540 ; -255,-345 -200,-345 -200,-320 ; -200,-320 -200,-300 ; -200,-300 -200,-230 ; -200,-300 -150,-300 ; -200,-230 -200,-210 ; -200,-230 200,-230 ; -200,-210 -200,-100 ; -200,-210 200,-210 ; -150,-300 -50,-300 ; -145,-540 -50,-540 ; -50,-540 50,-540 ; -50,-300 50,-300 ; 50,-540 150,-540 ; 50,-540 50,-300 ; 50,-300 150,-300 ; 150,-540 255,-540 ; 150,-540 150,-300 ; 150,-300 200,-300 ; 200,-320 200,-300 ; 200,-320 260,-320 ; 200,-320 200,-345 255,-345 ; 200,-300 200,-230 ; 200,-230 260,-230 ; 200,-230 200,-210 ; 200,-210 260,-210 ; 200,-210 200,-100 ; 255,-540 360,-540 ; 255,-540 255,-345 ; 255,-345 260,-345 260,-320 ; 260,-320 260,-300 ; 260,-300 360,-300 ; 260,-300 260,-230 ; 260,-230 440,-230 ; 260,-230 260,-210 ; 260,-210 440,-210 ; 360,-540 400,-540 400,-300 ; 360,-540 360,-300 ; 360,-300 400,-300 ; 400,-300 440,-300 440,-230 ; 440,-230 440,-210
  text "4" at 210,75 h77.5
  text "3" at 10,75 h77.5
  text "1" at -380,75 h77.5
  text "2" at -190,75 h77.5
Courtyard Bottom:
  lines w6: -335,-25 -325,-35 -275,-35 -265,-25 ; -335,25 -325,35 -275,35 -265,25 ; -260,-165 -260,-100 ; -260,-35 -260,-100 ; -245,-100 -260,-100 ; -135,-25 -125,-35 -75,-35 -65,-25 ; -135,25 -125,35 -75,35 -65,25 ; 65,-25 75,-35 125,-35 135,-25 ; 65,25 75,35 125,35 135,25 ; 245,-100 260,-100 ; 260,-165 260,-100 ; 260,-35 260,-100 ; 265,-25 275,-35 325,-35 335,-25 ; 265,25 275,35 325,35 335,25

## IC5 [mil]
pads (10):
  oval 82.5x165 hole 55: 1(-400,100) 1A(-400,-100) 2(-200,100) 2A(-200,-100) 3(0,100) 3A(0,-100) 4(200,100) 4A(200,-100) 5(400,100) 5A(400,-100)
Top Overlay:
  lines w6: -460,-515 -460,-540 ; -460,-400 -460,-300 ; -435,-25 -435,25 ; -365,-25 -365,25 ; -360,-165 -360,-210 ; -360,-35 -360,-25 -300,-25 -300,-100 ; -355,-515 -355,-540 ; -355,-400 -355,-345 ; -345,-100 -300,-100 ; -250,-400 -250,-300 ; -245,-515 -245,-540 ; -235,-25 -235,25 ; -165,-25 -165,25 ; -150,-515 -150,-540 ; -150,-400 -150,-300 ; -35,-25 -35,25 ; 35,-25 35,25 ; 165,-25 165,25 ; 235,-25 235,25 ; 345,-100 300,-100 ; 360,-165 360,-210 ; 360,-35 360,-25 300,-25 300,-100 ; 365,-25 365,25 ; 435,-25 435,25 ; -540,-230 -540,-210 ; -540,-230 -360,-230 ; -540,-230 -540,-300 -500,-300 ; -540,-210 -540,211 540,211 540,-210 ; -540,-210 -360,-210 ; -500,-300 -460,-300 ; -500,-300 -500,-540 -460,-540 ; -460,-540 -355,-540 ; -460,-300 -360,-300 ; -360,-320 -360,-345 -355,-345 ; -360,-320 -300,-320 ; -360,-320 -360,-300 ; -360,-300 -360,-230 ; -360,-230 -360,-210 ; -355,-540 -245,-540 ; -355,-345 -300,-345 -300,-320 ; -300,-320 -300,-300 ; -300,-300 -300,-230 ; -300,-300 -250,-300 ; -300,-230 -300,-210 ; -300,-230 300,-230 ; -300,-210 -300,-100 ; -300,-210 300,-210 ; -250,-300 -150,-300 ; -245,-540 -150,-540 ; -150,-540 -50,-540 ; -150,-300 -50,-300 ; -50,-540 50,-540 ; -50,-540 -50,-300 ; -50,-300 50,-300 ; 50,-540 150,-540 ; 50,-540 50,-300 ; 50,-300 150,-300 ; 150,-540 250,-540 ; 150,-540 150,-300 ; 150,-300 250,-300 ; 250,-540 355,-540 ; 250,-540 250,-300 ; 250,-300 300,-300 ; 300,-320 300,-300 ; 300,-320 360,-320 ; 300,-320 300,-345 355,-345 ; 300,-300 300,-230 ; 300,-230 360,-230 ; 300,-230 300,-210 ; 300,-210 360,-210 ; 300,-210 300,-100 ; 355,-540 460,-540 ; 355,-540 355,-345 ; 355,-345 360,-345 360,-320 ; 360,-320 360,-300 ; 360,-300 460,-300 ; 360,-300 360,-230 ; 360,-230 540,-230 ; 360,-230 360,-210 ; 360,-210 540,-210 ; 460,-540 500,-540 500,-300 ; 460,-540 460,-300 ; 460,-300 500,-300 ; 500,-300 540,-300 540,-230 ; 540,-230 540,-210
  text "3" at -90,75 h77.5
  text "1" at -480,75 h77.5
  text "2" at -290,75 h77.5
  text "4" at 110,75 h77.5
  text "5" at 310,75 h77.5
Courtyard Bottom:
  lines w6: -435,-25 -425,-35 -375,-35 -365,-25 ; -435,25 -425,35 -375,35 -365,25 ; -360,-165 -360,-100 ; -360,-35 -360,-100 ; -345,-100 -360,-100 ; -235,-25 -225,-35 -175,-35 -165,-25 ; -235,25 -225,35 -175,35 -165,25 ; -35,-25 -25,-35 25,-35 35,-25 ; -35,25 -25,35 25,35 35,25 ; 165,-25 175,-35 225,-35 235,-25 ; 165,25 175,35 225,35 235,25 ; 345,-100 360,-100 ; 360,-165 360,-100 ; 360,-35 360,-100 ; 365,-25 375,-35 425,-35 435,-25 ; 365,25 375,35 425,35 435,25

## IC6 [mil]
pads (12):
  oval 82.5x165 hole 55: 1(-500,100) 1A(-500,-100) 2(-300,100) 2A(-300,-100) 3(-100,100) 3A(-100,-100) 4(100,100) 4A(100,-100) 5(300,100) 5A(300,-100) 6(500,100) 6A(500,-100)
Top Overlay:
  lines w6: -560,-515 -560,-540 ; -560,-400 -560,-300 ; -535,-25 -535,25 ; -465,-25 -465,25 ; -460,-165 -460,-210 ; -460,-35 -460,-25 -400,-25 -400,-100 ; -455,-515 -455,-540 ; -455,-400 -455,-345 ; -445,-100 -400,-100 ; -350,-400 -350,-300 ; -345,-515 -345,-540 ; -335,-25 -335,25 ; -265,-25 -265,25 ; -250,-515 -250,-540 ; -250,-400 -250,-300 ; -135,-25 -135,25 ; -65,-25 -65,25 ; 65,-25 65,25 ; 135,-25 135,25 ; 265,-25 265,25 ; 335,-25 335,25 ; 445,-100 400,-100 ; 460,-165 460,-210 ; 460,-35 460,-25 400,-25 400,-100 ; 465,-25 465,25 ; 535,-25 535,25 ; -640,-230 -640,-210 ; -640,-230 -460,-230 ; -640,-230 -640,-300 -600,-300 ; -640,-210 -640,211 640,211 640,-210 ; -640,-210 -460,-210 ; -600,-300 -560,-300 ; -600,-300 -600,-540 -560,-540 ; -560,-540 -455,-540 ; -560,-300 -460,-300 ; -460,-320 -460,-345 -455,-345 ; -460,-320 -400,-320 ; -460,-320 -460,-300 ; -460,-300 -460,-230 ; -460,-230 -460,-210 ; -455,-540 -345,-540 ; -455,-345 -400,-345 -400,-320 ; -400,-320 -400,-300 ; -400,-300 -400,-230 ; -400,-300 -350,-300 ; -400,-230 -400,-210 ; -400,-230 400,-230 ; -400,-210 -400,-100 ; -400,-210 400,-210 ; -350,-300 -250,-300 ; -345,-540 -250,-540 ; -250,-540 -150,-540 ; -250,-300 -150,-300 ; -150,-540 -50,-540 ; -150,-540 -150,-300 ; -150,-300 -50,-300 ; -50,-540 50,-540 ; -50,-540 -50,-300 ; -50,-300 50,-300 ; 50,-540 150,-540 ; 50,-540 50,-300 ; 50,-300 150,-300 ; 150,-540 250,-540 ; 150,-540 150,-300 ; 150,-300 250,-300 ; 250,-540 350,-540 ; 250,-540 250,-300 ; 250,-300 350,-300 ; 350,-540 455,-540 ; 350,-540 350,-300 ; 350,-300 400,-300 ; 400,-320 400,-300 ; 400,-320 460,-320 ; 400,-320 400,-345 455,-345 ; 400,-300 400,-230 ; 400,-230 460,-230 ; 400,-230 400,-210 ; 400,-210 460,-210 ; 400,-210 400,-100 ; 455,-540 560,-540 ; 455,-540 455,-345 ; 455,-345 460,-345 460,-320 ; 460,-320 460,-300 ; 460,-300 560,-300 ; 460,-300 460,-230 ; 460,-230 640,-230 ; 460,-230 460,-210 ; 460,-210 640,-210 ; 560,-540 600,-540 600,-300 ; 560,-540 560,-300 ; 560,-300 600,-300 ; 600,-300 640,-300 640,-230 ; 640,-230 640,-210
  text "3" at -190,75 h77.5
  text "1" at -580,75 h77.5
  text "2" at -390,75 h77.5
  text "4" at 10,75 h77.5
  text "5" at 210,75 h77.5
  text "6" at 410,75 h77.5
Courtyard Bottom:
  lines w6: -535,-25 -525,-35 -475,-35 -465,-25 ; -535,25 -525,35 -475,35 -465,25 ; -460,-165 -460,-100 ; -460,-35 -460,-100 ; -445,-100 -460,-100 ; -335,-25 -325,-35 -275,-35 -265,-25 ; -335,25 -325,35 -275,35 -265,25 ; -135,-25 -125,-35 -75,-35 -65,-25 ; -135,25 -125,35 -75,35 -65,25 ; 65,-25 75,-35 125,-35 135,-25 ; 65,25 75,35 125,35 135,25 ; 265,-25 275,-35 325,-35 335,-25 ; 265,25 275,35 325,35 335,25 ; 445,-100 460,-100 ; 460,-165 460,-100 ; 460,-35 460,-100 ; 465,-25 475,-35 525,-35 535,-25 ; 465,25 475,35 525,35 535,25

## IC7 [mil]
pads (14):
  oval 82.5x165 hole 55: 1(-600,100) 1A(-600,-100) 2(-400,100) 2A(-400,-100) 3(-200,100) 3A(-200,-100) 4(0,100) 4A(0,-100) 5(200,100) 5A(200,-100) 6(400,100) 6A(400,-100) 7(600,100) 7A(600,-100)
Top Overlay:
  lines w6: -660,-515 -660,-540 ; -660,-400 -660,-300 ; -635,-25 -635,25 ; -565,-25 -565,25 ; -560,-165 -560,-210 ; -560,-35 -560,-25 -500,-25 -500,-100 ; -555,-515 -555,-540 ; -555,-400 -555,-345 ; -545,-100 -500,-100 ; -450,-400 -450,-300 ; -445,-515 -445,-540 ; -435,-25 -435,25 ; -365,-25 -365,25 ; -350,-515 -350,-540 ; -350,-400 -350,-300 ; -235,-25 -235,25 ; -165,-25 -165,25 ; -35,-25 -35,25 ; 35,-25 35,25 ; 165,-25 165,25 ; 235,-25 235,25 ; 365,-25 365,25 ; 435,-25 435,25 ; 545,-100 500,-100 ; 560,-165 560,-210 ; 560,-35 560,-25 500,-25 500,-100 ; 565,-25 565,25 ; 635,-25 635,25 ; -740,-230 -740,-210 ; -740,-230 -560,-230 ; -740,-230 -740,-300 -700,-300 ; -740,-210 -740,211 740,211 740,-210 ; -740,-210 -560,-210 ; -700,-300 -660,-300 ; -700,-300 -700,-540 -660,-540 ; -660,-540 -555,-540 ; -660,-300 -560,-300 ; -560,-320 -560,-345 -555,-345 ; -560,-320 -500,-320 ; -560,-320 -560,-300 ; -560,-300 -560,-230 ; -560,-230 -560,-210 ; -555,-540 -445,-540 ; -555,-345 -500,-345 -500,-320 ; -500,-320 -500,-300 ; -500,-300 -500,-230 ; -500,-300 -450,-300 ; -500,-230 -500,-210 ; -500,-230 500,-230 ; -500,-210 -500,-100 ; -500,-210 500,-210 ; -450,-300 -350,-300 ; -445,-540 -350,-540 ; -350,-540 -250,-540 ; -350,-300 -250,-300 ; -250,-540 -150,-540 ; -250,-540 -250,-300 ; -250,-300 -150,-300 ; -150,-540 -50,-540 ; -150,-540 -150,-300 ; -150,-300 -50,-300 ; -50,-540 50,-540 ; -50,-540 -50,-300 ; -50,-300 50,-300 ; 50,-540 150,-540 ; 50,-540 50,-300 ; 50,-300 150,-300 ; 150,-540 250,-540 ; 150,-540 150,-300 ; 150,-300 250,-300 ; 250,-540 350,-540 ; 250,-540 250,-300 ; 250,-300 350,-300 ; 350,-540 450,-540 ; 350,-540 350,-300 ; 350,-300 450,-300 ; 450,-540 555,-540 ; 450,-540 450,-300 ; 450,-300 500,-300 ; 500,-320 500,-300 ; 500,-320 560,-320 ; 500,-320 500,-345 555,-345 ; 500,-300 500,-230 ; 500,-230 560,-230 ; 500,-230 500,-210 ; 500,-210 560,-210 ; 500,-210 500,-100 ; 555,-540 660,-540 ; 555,-540 555,-345 ; 555,-345 560,-345 560,-320 ; 560,-320 560,-300 ; 560,-300 660,-300 ; 560,-300 560,-230 ; 560,-230 740,-230 ; 560,-230 560,-210 ; 560,-210 740,-210 ; 660,-540 700,-540 700,-300 ; 660,-540 660,-300 ; 660,-300 700,-300 ; 700,-300 740,-300 740,-230 ; 740,-230 740,-210
  text "3" at -290,75 h77.5
  text "1" at -680,75 h77.5
  text "2" at -490,75 h77.5
  text "4" at -90,75 h77.5
  text "5" at 110,75 h77.5
  text "6" at 310,75 h77.5
  text "7" at 510,75 h77.5
Courtyard Bottom:
  lines w6: -635,-25 -625,-35 -575,-35 -565,-25 ; -635,25 -625,35 -575,35 -565,25 ; -560,-165 -560,-100 ; -560,-35 -560,-100 ; -545,-100 -560,-100 ; -435,-25 -425,-35 -375,-35 -365,-25 ; -435,25 -425,35 -375,35 -365,25 ; -235,-25 -225,-35 -175,-35 -165,-25 ; -235,25 -225,35 -175,35 -165,25 ; -35,-25 -25,-35 25,-35 35,-25 ; -35,25 -25,35 25,35 35,25 ; 165,-25 175,-35 225,-35 235,-25 ; 165,25 175,35 225,35 235,25 ; 365,-25 375,-35 425,-35 435,-25 ; 365,25 375,35 425,35 435,25 ; 545,-100 560,-100 ; 560,-165 560,-100 ; 560,-35 560,-100 ; 565,-25 575,-35 625,-35 635,-25 ; 565,25 575,35 625,35 635,25

## IC8 [mil]
pads (16):
  oval 82.5x165 hole 55: 1(-700,100) 1A(-700,-100) 2(-500,100) 2A(-500,-100) 3(-300,100) 3A(-300,-100) 4(-100,100) 4A(-100,-100) 5(100,100) 5A(100,-100) 6(300,100) 6A(300,-100) 7(500,100) 7A(500,-100) 8(700,100) 8A(700,-100)
Top Overlay:
  lines w6: -760,-515 -760,-540 ; -760,-400 -760,-300 ; -735,-25 -735,25 ; -665,-25 -665,25 ; -660,-165 -660,-210 ; -660,-35 -660,-25 -600,-25 -600,-100 ; -655,-515 -655,-540 ; -655,-400 -655,-345 ; -645,-100 -600,-100 ; -550,-400 -550,-300 ; -545,-515 -545,-540 ; -535,-25 -535,25 ; -465,-25 -465,25 ; -450,-515 -450,-540 ; -450,-400 -450,-300 ; -335,-25 -335,25 ; -265,-25 -265,25 ; -135,-25 -135,25 ; -65,-25 -65,25 ; 65,-25 65,25 ; 135,-25 135,25 ; 265,-25 265,25 ; 335,-25 335,25 ; 465,-25 465,25 ; 535,-25 535,25 ; 645,-100 600,-100 ; 660,-165 660,-210 ; 660,-35 660,-25 600,-25 600,-100 ; 665,-25 665,25 ; 735,-25 735,25 ; -840,-230 -840,-210 ; -840,-230 -660,-230 ; -840,-230 -840,-300 -800,-300 ; -840,-210 -840,211 840,211 840,-210 ; -840,-210 -660,-210 ; -800,-300 -760,-300 ; -800,-300 -800,-540 -760,-540 ; -760,-540 -655,-540 ; -760,-300 -660,-300 ; -660,-320 -660,-345 -655,-345 ; -660,-320 -600,-320 ; -660,-320 -660,-300 ; -660,-300 -660,-230 ; -660,-230 -660,-210 ; -655,-540 -545,-540 ; -655,-345 -600,-345 -600,-320 ; -600,-320 -600,-300 ; -600,-300 -600,-230 ; -600,-300 -550,-300 ; -600,-230 -600,-210 ; -600,-230 600,-230 ; -600,-210 -600,-100 ; -600,-210 600,-210 ; -550,-300 -450,-300 ; -545,-540 -450,-540 ; -450,-540 -350,-540 ; -450,-300 -350,-300 ; -350,-540 -250,-540 ; -350,-540 -350,-300 ; -350,-300 -250,-300 ; -250,-540 -150,-540 ; -250,-540 -250,-300 ; -250,-300 -150,-300 ; -150,-540 -50,-540 ; -150,-540 -150,-300 ; -150,-300 -50,-300 ; -50,-540 50,-540 ; -50,-540 -50,-300 ; -50,-300 50,-300 ; 50,-540 150,-540 ; 50,-540 50,-300 ; 50,-300 150,-300 ; 150,-540 250,-540 ; 150,-540 150,-300 ; 150,-300 250,-300 ; 250,-540 350,-540 ; 250,-540 250,-300 ; 250,-300 350,-300 ; 350,-540 450,-540 ; 350,-540 350,-300 ; 350,-300 450,-300 ; 450,-540 550,-540 ; 450,-540 450,-300 ; 450,-300 550,-300 ; 550,-540 655,-540 ; 550,-540 550,-300 ; 550,-300 600,-300 ; 600,-320 600,-300 ; 600,-320 660,-320 ; 600,-320 600,-345 655,-345 ; 600,-300 600,-230 ; 600,-230 660,-230 ; 600,-230 600,-210 ; 600,-210 660,-210 ; 600,-210 600,-100 ; 655,-540 760,-540 ; 655,-540 655,-345 ; 655,-345 660,-345 660,-320 ; 660,-320 660,-300 ; 660,-300 760,-300 ; 660,-300 660,-230 ; 660,-230 840,-230 ; 660,-230 660,-210 ; 660,-210 840,-210 ; 760,-540 800,-540 800,-300 ; 760,-540 760,-300 ; 760,-300 800,-300 ; 800,-300 840,-300 840,-230 ; 840,-230 840,-210
  text "3" at -390,75 h77.5
  text "1" at -780,75 h77.5
  text "2" at -590,75 h77.5
  text "4" at -190,75 h77.5
  text "5" at 10,75 h77.5
  text "6" at 210,75 h77.5
  text "7" at 410,75 h77.5
  text "8" at 610,75 h77.5
Courtyard Bottom:
  lines w6: -735,-25 -725,-35 -675,-35 -665,-25 ; -735,25 -725,35 -675,35 -665,25 ; -660,-165 -660,-100 ; -660,-35 -660,-100 ; -645,-100 -660,-100 ; -535,-25 -525,-35 -475,-35 -465,-25 ; -535,25 -525,35 -475,35 -465,25 ; -335,-25 -325,-35 -275,-35 -265,-25 ; -335,25 -325,35 -275,35 -265,25 ; -135,-25 -125,-35 -75,-35 -65,-25 ; -135,25 -125,35 -75,35 -65,25 ; 65,-25 75,-35 125,-35 135,-25 ; 65,25 75,35 125,35 135,25 ; 265,-25 275,-35 325,-35 335,-25 ; 265,25 275,35 325,35 335,25 ; 465,-25 475,-35 525,-35 535,-25 ; 465,25 475,35 525,35 535,25 ; 645,-100 660,-100 ; 660,-165 660,-100 ; 660,-35 660,-100 ; 665,-25 675,-35 725,-35 735,-25 ; 665,25 675,35 725,35 735,25